# Altium footprint library inductor-neosid.PCBLIB: 99 footprints (part 3 of 7)
Each footprint in its own frame and in the unit in brackets; x right, y up, seen from the top. Pads: shape width x height; smd on the part's side, far side on the other; paste and mask are expansions set on the pad; w line width, h text height; cw(c..) or ccw(c..) is an arc to the next point about the centre after c.
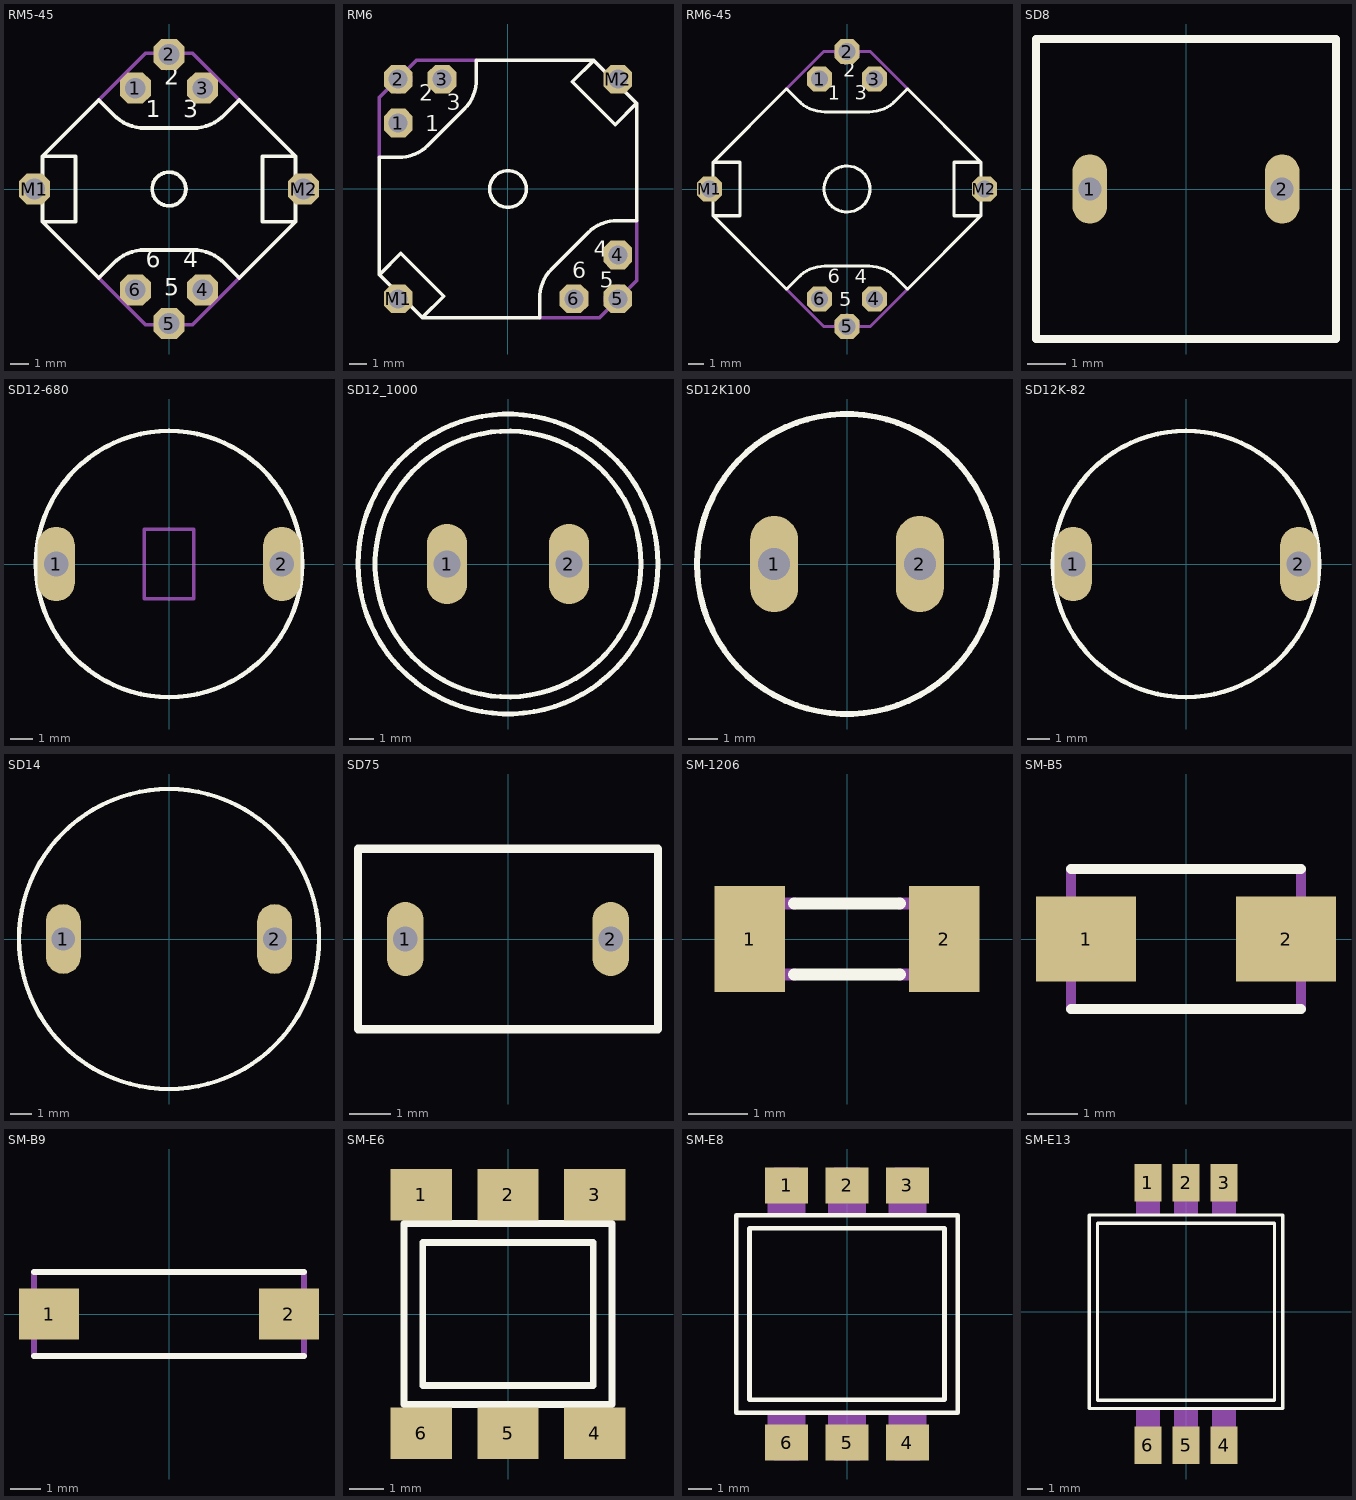
[diagram p2: the footprints below, top view; thin cyan lines are the x and y axes]

## RM5-45 [mm]
pads (8):
  oct 1.65x1.65 hole 1.1: 1(-1.796,5.388) 2(0,7.184) 3(1.796,5.388) 4(1.796,-5.388) 5(0,-7.184) 6(-1.796,-5.388) M1(-7.184,0) M2(7.184,0)
Top Overlay:
  circle w0.203: c0,0 r0.9
  lines w0.203: -6.75,-1.75 -3.75,-4.75 -3,-4 cw(c-1.268,-5.625) -1.25,-3.25 1.25,-3.25 cw(c1.268,-5.625) 3,-4 3.75,-4.75 6.75,-1.75 ; -6.75,-1.75 -6.75,1.75 ; -6.75,-1.75 -5,-1.75 -5,1.75 -6.75,1.75 ; -6.75,1.75 -3.75,4.75 -3,4 ccw(c-1.267,5.625) -1.25,3.25 1.25,3.25 ccw(c1.268,5.625) 3,4 3.75,4.75 6.75,1.75 ; 6.75,-1.75 6.75,1.75 ; 6.75,-1.75 5,-1.75 5,1.75 6.75,1.75
  text "1" at -1.25,3.5 h1.57
  text "2" at -0.25,5.25 h1.57
  text "3" at 0.75,3.5 h1.57
  text "4" at 0.75,-4.5 h1.57
  text "5" at -0.25,-6 h1.57
  text "6" at -1.25,-4.5 h1.57
Mechanical 16:
  circle w0.203: c-1.796,5.388 r0.5
  circle w0.203: c1.796,5.388 r0.5
  circle w0.203: c-1.796,-5.388 r0.5
  circle w0.203: c1.796,-5.388 r0.5
  lines w0.203: -3.75,-4.75 -1.25,-7.25 -0.5,-7.25 cw(c0,-7.25) 0.5,-7.25 1.25,-7.25 3.75,-4.75 ; -3.75,4.75 -1.25,7.25 -0.5,7.25 ccw(c0,7.25) 0.5,7.25 1.25,7.25 3.75,4.75

## RM6 [mm]
pads (8):
  oct 1.65x1.65 hole 1.1: 1(-6.35,3.81) 2(-6.35,6.35) 3(-3.81,6.35) 4(6.35,-3.81) 5(6.35,-6.35) 6(3.81,-6.35) M1(-6.35,-6.35) M2(6.35,6.35)
Top Overlay:
  circle w0.203: c0,0 r1.061
  lines w0.203: -7.425,-4.95 -7.425,1.833 -6.364,1.833 ccw(c-6.288,4.207) -4.596,2.54 -2.54,4.596 ccw(c-4.207,6.288) -1.833,6.364 -1.833,7.425 4.95,7.425 ; -7.425,-4.95 -4.95,-7.425 ; -7.425,-4.95 -6.187,-3.712 -3.712,-6.187 -4.95,-7.425 ; -4.95,-7.425 1.833,-7.425 1.833,-6.364 cw(c4.207,-6.288) 2.54,-4.596 4.596,-2.54 cw(c6.288,-4.207) 6.364,-1.833 7.425,-1.833 7.425,4.95 ; 4.95,7.425 7.425,4.95 ; 4.95,7.425 3.712,6.187 6.187,3.712 7.425,4.95
  text "1" at -4.773,3.005 h1.57
  text "2" at -5.126,4.773 h1.57
  text "3" at -3.535,4.243 h1.57
  text "4" at 4.95,-4.243 h1.57
  text "5" at 5.303,-6.01 h1.57
  text "6" at 3.712,-5.48 h1.57
Mechanical 16:
  circle w0.203: c3.81,-6.35 r0.354
  circle w0.203: c6.35,-3.81 r0.353
  circle w0.203: c-6.35,3.81 r0.354
  circle w0.203: c-3.81,6.35 r0.354
  lines w0.203: -7.425,1.833 -7.425,5.303 -6.894,5.834 ccw(c-6.364,6.364) -5.833,6.895 ; -5.834,6.894 -5.833,6.895 ; -1.833,7.425 -5.303,7.425 -5.833,6.895 ; 1.833,-7.425 5.303,-7.425 5.834,-6.894 cw(c6.364,-6.364) 6.895,-5.833 ; 6.894,-5.834 6.895,-5.833 ; 7.425,-1.833 7.425,-5.303 6.895,-5.833

## RM6-45 [mm]
pads (8):
  oct 1.65x1.65 hole 1.1: 1(-1.796,7.184) 2(0,8.98) 3(1.796,7.184) 4(1.796,-7.184) 5(0,-8.98) 6(-1.796,-7.184) M1(-8.98,0) M2(8.98,0)
Top Overlay:
  circle w0.203: c0,0 r1.5
  lines w0.203: -8.75,-1.75 -3.954,-6.546 -3.204,-5.796 cw(c-1.472,-7.421) -1.454,-5.046 1.454,-5.046 cw(c1.472,-7.421) 3.204,-5.796 3.954,-6.546 8.75,-1.75 ; -8.75,-1.75 -8.75,1.75 ; -8.75,-1.75 -7,-1.75 -7,1.75 -8.75,1.75 ; -8.75,1.75 -3.954,6.546 -3.204,5.796 ccw(c-1.472,7.421) -1.454,5.046 1.454,5.046 ccw(c1.472,7.421) 3.204,5.796 3.954,6.546 8.75,1.75 ; 8.75,-1.75 8.75,1.75 ; 8.75,-1.75 7,-1.75 7,1.75 8.75,1.75
  text "1" at -1.25,5.5 h1.57
  text "2" at -0.25,7 h1.57
  text "3" at 0.5,5.5 h1.57
  text "4" at 0.5,-6.5 h1.57
  text "5" at -0.5,-8 h1.57
  text "6" at -1.25,-6.5 h1.57
Mechanical 16:
  circle w0.203: c-1.796,-7.184 r0.5
  circle w0.203: c1.796,-7.184 r0.5
  circle w0.203: c-1.796,7.184 r0.5
  circle w0.203: c1.796,7.184 r0.5
  lines w0.203: -3.954,-6.546 -1.5,-9 -0.75,-9 cw(c0,-9) 0.75,-9 1.5,-9 3.954,-6.546 ; -3.954,6.546 -1.5,9 -0.75,9 ccw(c0,9) 0.75,9 1.5,9 3.954,6.546

## SD8 [mm]
pads (2):
  oval 0.9x1.8 hole 0.6: 1(-2.5,0) 2(2.5,0)
Top Overlay:
  lines w0.203: -3.9,-3.9 3.9,-3.9 3.9,3.9 -3.9,3.9 -3.9,-3.9

## SD12-680 [mm]
pads (2):
  oval 1.65x3.3 hole 1.1: 1(-5,0) 2(5,0)
Top Overlay:
  circle w0.203: c0,0 r5.9
Mechanical 16:
  lines w0.152: -1.1,-1.55 1.1,-1.55 1.1,1.55 -1.1,1.55 -1.1,-1.55

## SD12_1000 [mm]
pads (2):
  oval 1.65x3.3 hole 1.1: 1(-2.5,0) 2(2.5,0)
Top Overlay:
  circle w0.203: c0,0 r6.15
  circle w0.203: c0,0 r5.45

## SD12K100 [mm]
pads (2):
  oval 1.65x3.3 hole 1.1: 1(-2.5,0) 2(2.5,0)
Top Overlay:
  circle w0.203: c0,0 r5.15

## SD12K-82 [mm]
pads (2):
  oval 1.65x3.3 hole 1.1: 1(-5,0) 2(5,0)
Top Overlay:
  circle w0.203: c0,0 r5.9

## SD14 [mm]
pads (2):
  oval 1.65x3.3 hole 1.1: 1(-5,0) 2(5,0)
Top Overlay:
  circle w0.203: c0,0 r7.1

## SD75 [mm]
pads (2):
  oval 0.9x1.8 hole 0.6: 1(-2.5,0) 2(2.5,0)
Top Overlay:
  lines w0.203: -3.65,-2.2 3.65,-2.2 3.65,2.2 -3.65,2.2 -3.65,-2.2

## SM-1206 [mm]
pads (2):
  rect 1.2x1.8 smd: 1(-1.65,0) 2(1.65,0)
Top Overlay:
  lines w0.203: -0.9,-0.6 0.9,-0.6 ; -0.9,0.6 0.9,0.6
Mechanical 16:
  lines w0.203: -0.9,-0.6 -1.3,-0.6 ; -0.9,0.6 -1.3,0.6 ; 0.9,-0.6 1.3,-0.6 ; 0.9,0.6 1.3,0.6 ; -1.3,-0.6 -1.3,-0.7 -2.1,-0.7 -2.1,0.7 -1.3,0.7 -1.3,0.6 ; -1.3,-0.6 -1.3,0.6 ; 1.3,-0.6 1.3,0.6 ; 1.3,-0.6 1.3,-0.7 2.1,-0.7 2.1,0.7 1.3,0.7 1.3,0.6

## SM-B5 [mm]
pads (2):
  rect 2x1.7 smd: 1(-2,0) 2(2,0)
Top Overlay:
  lines w0.203: -2.3,-1.4 2.3,-1.4 ; -2.3,1.4 2.3,1.4
Mechanical 16:
  lines w0.203: -2.3,-1.4 -2.3,1.4 ; 2.3,-1.4 2.3,1.4

## SM-B9 [mm]
pads (2):
  rect 2x1.7 smd: 1(-4,0) 2(4,0)
Top Overlay:
  lines w0.203: -4.5,-1.4 4.5,-1.4 ; -4.5,1.4 4.5,1.4
Mechanical 16:
  lines w0.203: -4.5,-1.4 -4.5,1.4 ; 4.5,-1.4 4.5,1.4

## SM-E6 [mm]
pads (6):
  rect 1.8x1.5 smd: 1(-2.54,3.5) 2(0,3.5) 3(2.54,3.5) 4(2.54,-3.5) 5(0,-3.5) 6(-2.54,-3.5)
Top Overlay:
  lines w0.203: -3.05,-2.65 3.05,-2.65 3.05,2.65 -3.05,2.65 -3.05,-2.65 ; -2.5,-2.1 2.5,-2.1 2.5,2.1 -2.5,2.1 -2.5,-2.1
Mechanical 16:
  rectangle: -3.09,2.75 -2,4.25
  rectangle: -0.55,2.75 0.55,4.25
  rectangle: 2,2.75 3.09,4.25
  rectangle: 2,-4.25 3.09,-2.75
  rectangle: -0.55,-4.25 0.55,-2.75
  rectangle: -3.09,-4.25 -2,-2.75

## SM-E8 [mm]
pads (6):
  rect 1.8x1.5 smd: 1(-2.54,5.4) 2(0,5.4) 3(2.54,5.4) 4(2.54,-5.4) 5(0,-5.4) 6(-2.54,-5.4)
Top Overlay:
  lines w0.203: -4.65,-4.15 4.65,-4.15 4.65,4.15 -4.65,4.15 -4.65,-4.15 ; -4.1,-3.6 4.1,-3.6 4.1,3.6 -4.1,3.6 -4.1,-3.6
Mechanical 16:
  rectangle: -3.09,4.65 -2,6.15
  rectangle: -0.55,4.65 0.55,6.15
  rectangle: 2,4.65 3.09,6.15
  rectangle: 2,-6.15 3.09,-4.65
  rectangle: -0.55,-6.15 0.55,-4.65
  rectangle: -3.09,-6.15 -2,-4.65
  rectangle: -3.34,4.2 -1.74,4.7
  rectangle: -0.8,4.2 0.8,4.7
  rectangle: 1.74,4.2 3.34,4.7
  rectangle: 1.74,-4.7 3.34,-4.2
  rectangle: -0.8,-4.7 0.8,-4.2
  rectangle: -3.34,-4.7 -1.74,-4.2

## SM-E13 [mm]
pads (6):
  rect 1.8x2.5 smd: 1(-2.54,8.6) 2(0,8.6) 3(2.54,8.6) 4(2.54,-8.9) 5(0,-8.9) 6(-2.54,-8.9)
Top Overlay:
  lines w0.203: -6.45,-6.45 6.45,-6.45 6.45,6.45 -6.45,6.45 -6.45,-6.45 ; -5.9,-5.9 5.9,-5.9 5.9,5.9 -5.9,5.9 -5.9,-5.9
Mechanical 16:
  rectangle: -3.09,8.15 -2,9.65
  rectangle: -0.55,8.15 0.55,9.65
  rectangle: 2,8.15 3.09,9.65
  rectangle: 2,-9.65 3.09,-8.15
  rectangle: -0.55,-9.65 0.55,-8.15
  rectangle: -3.09,-9.65 -2,-8.15
  rectangle: -0.8,6.5 0.8,8.2
  rectangle: -3.34,6.5 -1.74,8.2
  rectangle: 1.74,6.5 3.34,8.2
  rectangle: -3.34,-8.2 -1.74,-6.5
  rectangle: -0.8,-8.2 0.8,-6.5
  rectangle: 1.74,-8.2 3.34,-6.5